# Altium footprint library PBD2-10S.PcbLib: 1 footprints
Each footprint in its own frame and in the unit in brackets; x right, y up, seen from the top. Pads: shape width x height; smd on the part's side, far side on the other; paste and mask are expansions set on the pad; w line width, h text height; cw(c..) or ccw(c..) is an arc to the next point about the centre after c.
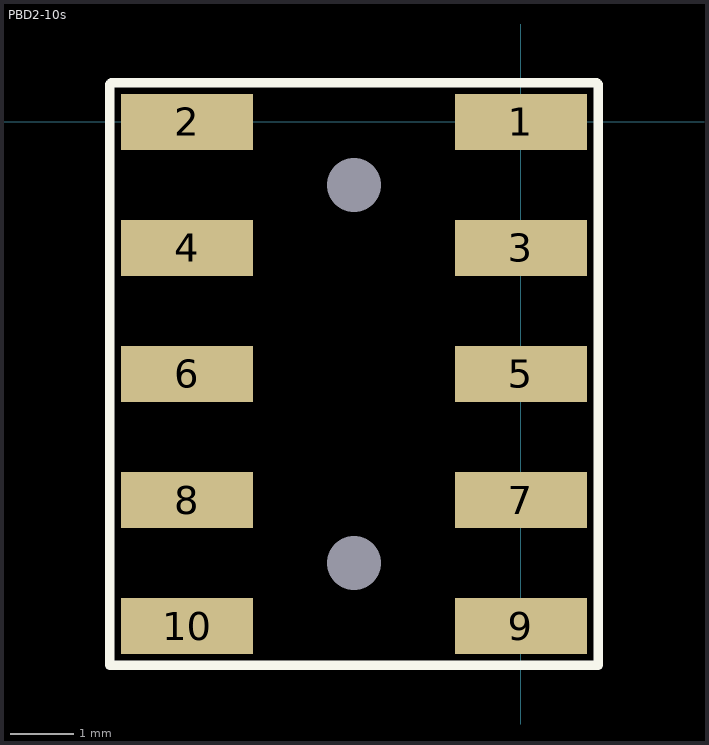
[diagram p0: the footprint, top view; thin cyan lines are the x and y axes]

## PBD2-10s [mm]
pads (12):
  round 0 hole 0.85: 0(-2.65,-7) 0(-2.65,-1)
  rect 2.1x0.89 smd: 1(0,0) 2(-5.3,0) 3(0,-2) 4(-5.3,-2) 5(0,-4) 6(-5.3,-4) 7(0,-6) 8(-5.3,-6) 9(0,-8) 10(-5.3,-8)
Top Overlay:
  lines w0.15: -6.524,0.601 -6.524,-8.623 1.223,-8.623 1.225,-8.625 1.225,0.6 ; -6.5,0.625 1.2,0.625